# Altium schematic symbol library Broadcom ASMB-MTB0.Schlib: 1 symbol
Pins are listed as number, name and electrical type; pins without a type are passive.

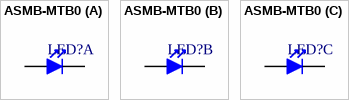
[diagram p0: symbol ASMB-MTB0]

## ASMB-MTB0
designator LED?, comment ASMB-MTB0-0A3A2  (value not drawn)
LED Tri-Color Blue/Green/Red 465nm/522nm/634nm Chip LED 4-Pin PLCC; Manufacturer: Broadcom; Value 1: RGB; Part Number: ASMB-MTB0-0A3A2; Mount Type: SMT; Supplier 1: Mouser; Supplier Part Number 1: 630-ASMB-MTB0-0A3A2; RoHS: Y; Technology: RGB; Value 2: *; Package: 0603; ComponentLink1Description: Datasheet Link; ComponentLink1URL: https://ru.mouser.com/datasheet/2/678/av02-4186en_ds_asmb-mtb0_2015-05-21-1828221.pdf; TYPE: LED; Value: ASMB-MTB0-0A3A2
footprint 3228 Tricolor PLCC-4 LED (3228Tricolor PLCC-4 LED)
part A pins: 1 AR, 4 KR
part B pins: 1 AG, 3 KG
part C pins: 1 AB, 2 KB
1 alternate drawing of the same symbol